# EAGLE library part SF72S006VBDR2500 (library SF72S006VBDR2500)
Memory Card Connectors NANO SIM Card Source: Datasheet <https://datasheet.datasheetarchive.com/originals/distributors/DKDS-13/256652.pdf>
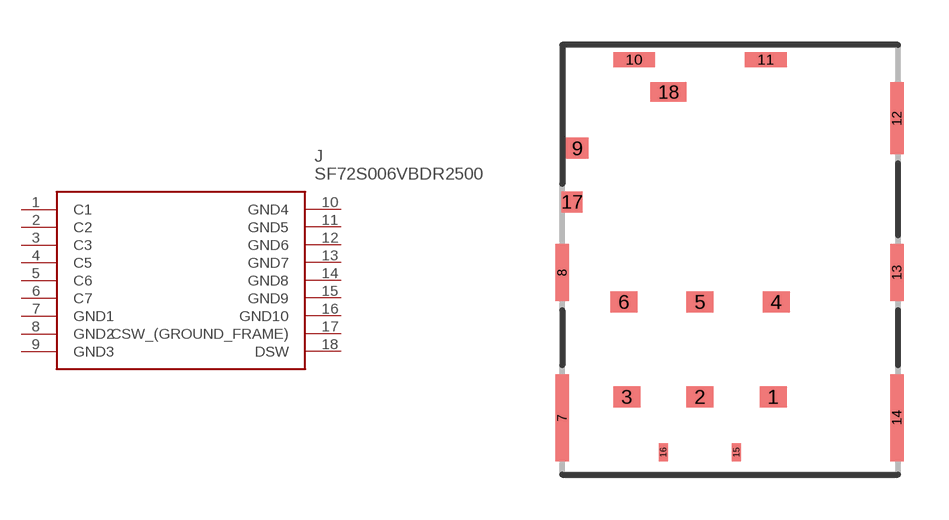
[diagram p0: symbol with the pads of SF72S006VBDR2500; footprint SF72S006VBDR2500]

Designator prefix J

## SF72S006VBDR2500 (Description: Memory Card Connectors NANO SIM Card; Height: mm; Manufacturer_Name: JAE Electronics; Manufacturer_Part_Number: SF72S006VBDR2500; Mouser_Part_Number: 656-SF72S006VBDR2500; Mouser_Price-Stock: https://www.mouser.co.uk/ProductDetail/JAE-Electronics/SF72S006VBDR2500?qs=AQlKX63v8Ru8DC7mjqNwTg%3D%3D)  [SF72S006VBDR2500]
1  C1
2  C2
3  C3
4  C5
5  C6
6  C7
7  GND1
8  GND2
9  GND3
10  GND4
11  GND5
12  GND6
13  GND7
14  GND8
15  GND9
16  GND10
17  CSW_(GROUND_FRAME)
18  DSW

## Footprint SF72S006VBDR2500 (pad centres in mm)
SF72S006VBDR2500
smd 0.9 x 0.7: 1 -4.165,2.6; 2 -6.605,2.6; 3 -9.045,2.6; 4 -4.065,5.77; 5 -6.605,5.77; 6 -9.145,5.77
smd 0.45 x 2.9: 7 -11.2,1.9; 14 -0.025,1.9
smd 0.45 x 1.9: 8 -11.2,6.75; 13 -0.025,6.75
smd 0.75 x 0.7: 9 -10.7,10.9
smd 1.4 x 0.5: 10 -8.805,13.85; 11 -4.405,13.85
smd 0.45 x 2.4: 12 -0.025,11.9
smd 0.3 x 0.6: 15 -5.385,0.75; 16 -7.825,0.75
smd 0.7 x 0.7: 17 -10.875,9.1
smd 1.2 x 0.65: 18 -7.658,12.775